# Altium schematic symbol library 00-100001-001.SchLib: 158 symbols (part 2 of 2)
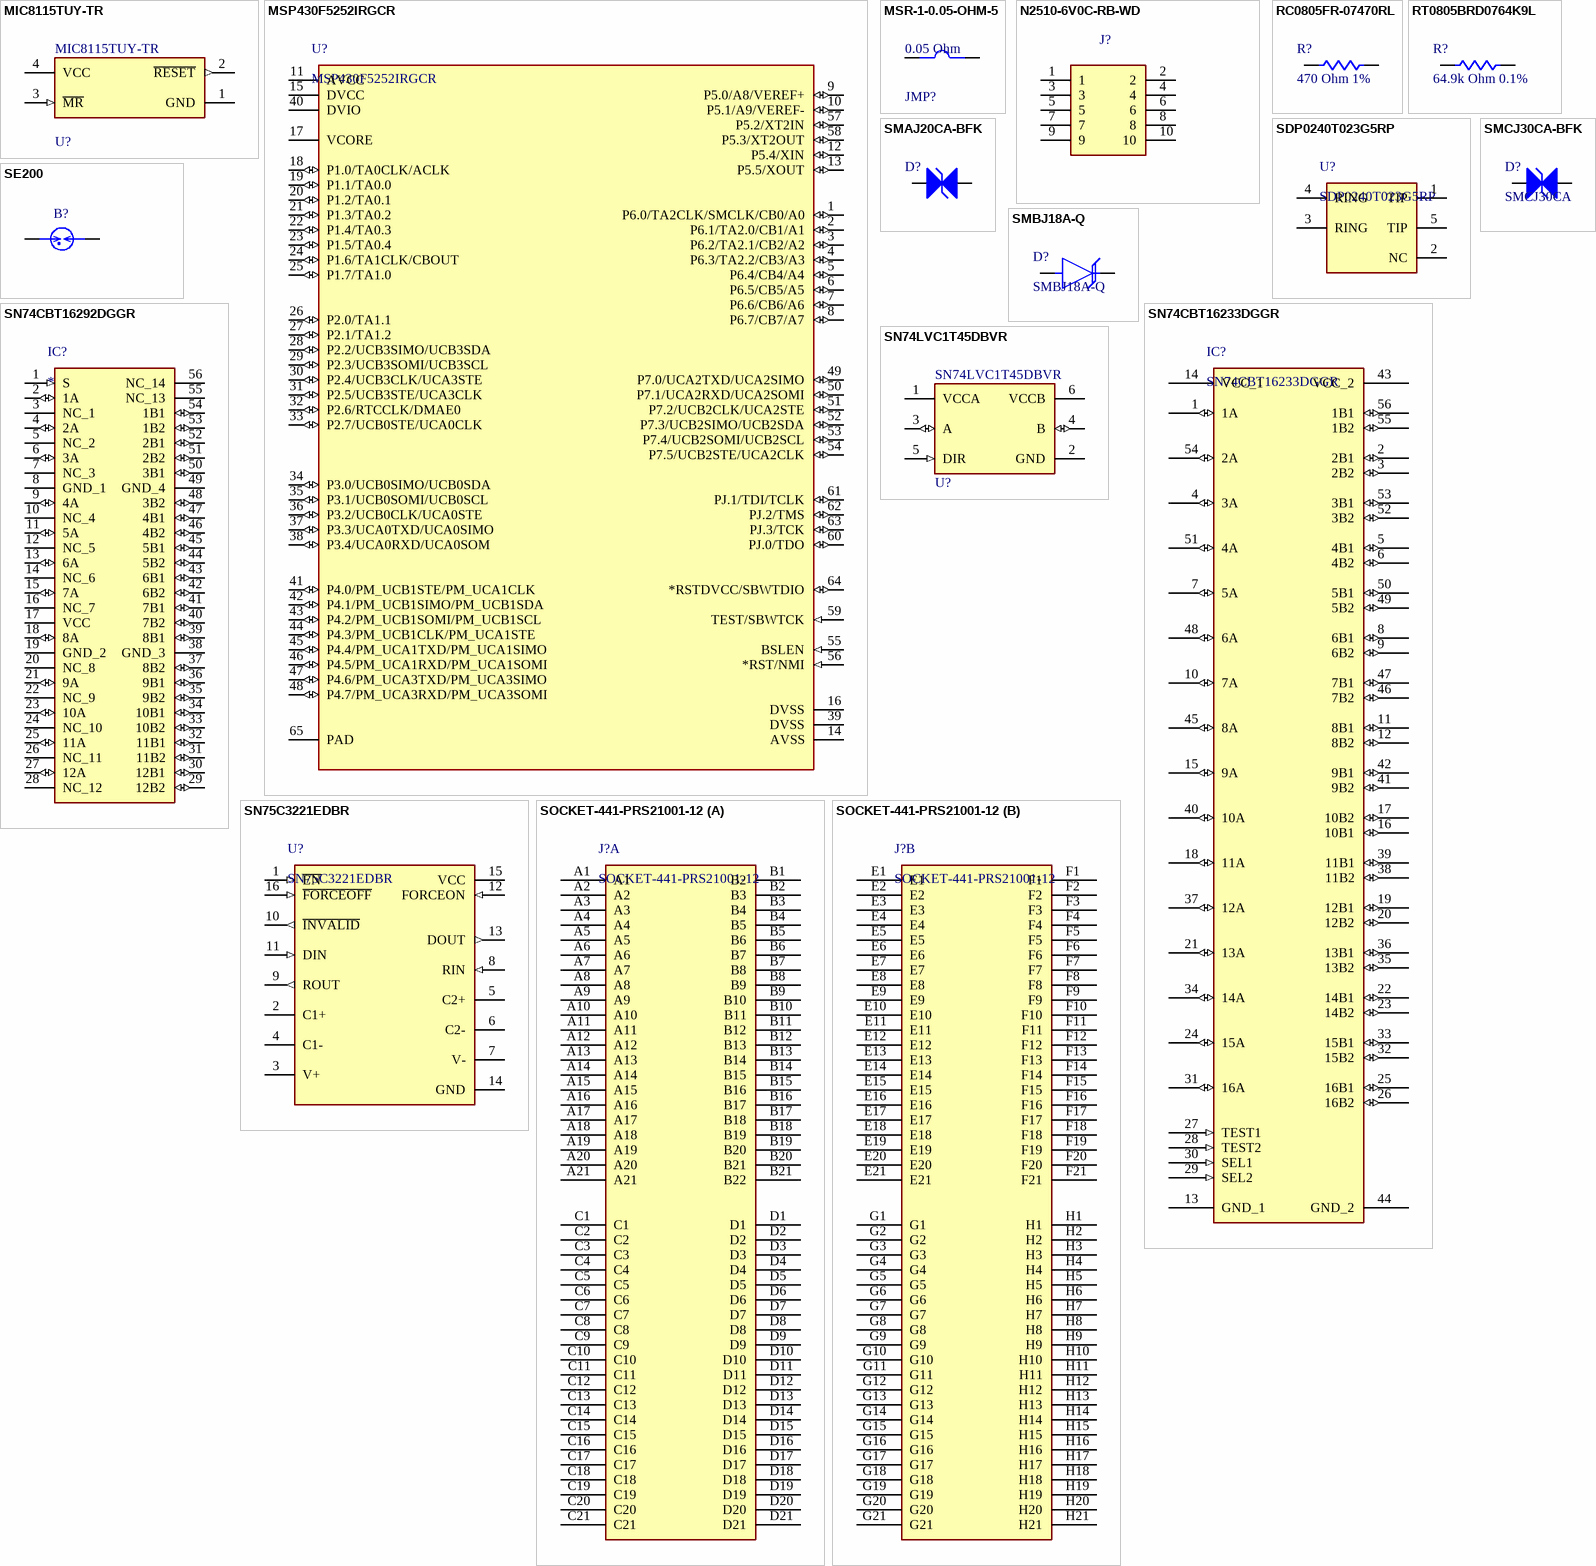
[diagram p5: symbols MIC8115TUY-TR to SOCKET-441-PRS21001-12]

## SN74LVC1T45DBVR
designator U?
IC TRNSLTR BIDIRECTIONAL SOT23-6; Number of Inputs: 1; Logic Function: Translator; Min Supply Voltage: 1.65V; Quiescent Current: 3uA; Turn-On Delay Time: 36.2ns; Max Supply Voltage: 5.5V; Polarity: Non-Inverting; Propagation Delay: 3.9ns; Low Level Output Current: 32mA; Data Rate: 420Mbps; High Level Output Current: -32mA; KMI: 812244; Number of Bits: 1; Max Operating Temperature: 85°C; Mount: Surface Mount; Lead Free: Lead Free; Number of Elements: 1; Package Quantity: 3000; Number of Pins: 6; Width: 1.3mm; Min Operating Temperature: -40°C; REACH SVHC: No SVHC; Weight: 0.000229oz; Contact Plating: Gold; Height: 1.75mm; Direction: Bidirectional; Number of Channels: 1; Length: 3.05mm; Packaging: Tape and Reel; Radiation Hardening: No
footprint SN74LVC1T45DBVR
pins: 1 VCCA (power), 2 GND (power), 3 A (io), 4 B (io), 5 DIR (in), 6 VCCB (power)

## SN75C3221EDBR
designator U?
3-V to 5.5-V Single-Channel RS-232 1-Mbit/s Line Driver / Receiver with ±15-kV IEC ESD Protection, -40 to 85 degC, 16-Pin SSOP (DB), Green (RoHS & no Sb/Br); Receivers Per Package: 1; ESD HBM(kV): +/-15; Supply Voltage(s)(V): 3.3 or 5.0; KMI: 811379; PackageDescription: 16-Pin Plastic Small Outline Package, 6.2 x 5.3 mm Body, 0.65 mm Pitch; ComponentLink2Description: Datasheet; ComponentLink3Description: Package Specification; ComponentLink2URL: http://www.ti.com/general/docs/lit/getliterature.tsp?genericPartNumber=SN75C3221E&fileType=pdf; ComponentLink1Description: Manufacturer URL; ComponentLink1URL: www.ti.com; ComponentLink3URL: http://www.ti.com/litv/pdf/msso002e
footprint DB0016A_N (SOP, 16-Leads, Body 5.6x6.5mm, Pitch 0.65mm, IPC Medium Density)
pins: 1 ~{EN} (in), 2 C1+, 3 V+ (power), 4 C1-, 5 C2+, 6 C2-, 7 V- (power), 8 RIN (in), 9 ROUT (out), 10 ~{INVALID} (out), 11 DIN (in), 12 FORCEON (in), 13 DOUT (out), 14 GND (power), 15 VCC (power), 16 ~{FORCEOFF} (in)

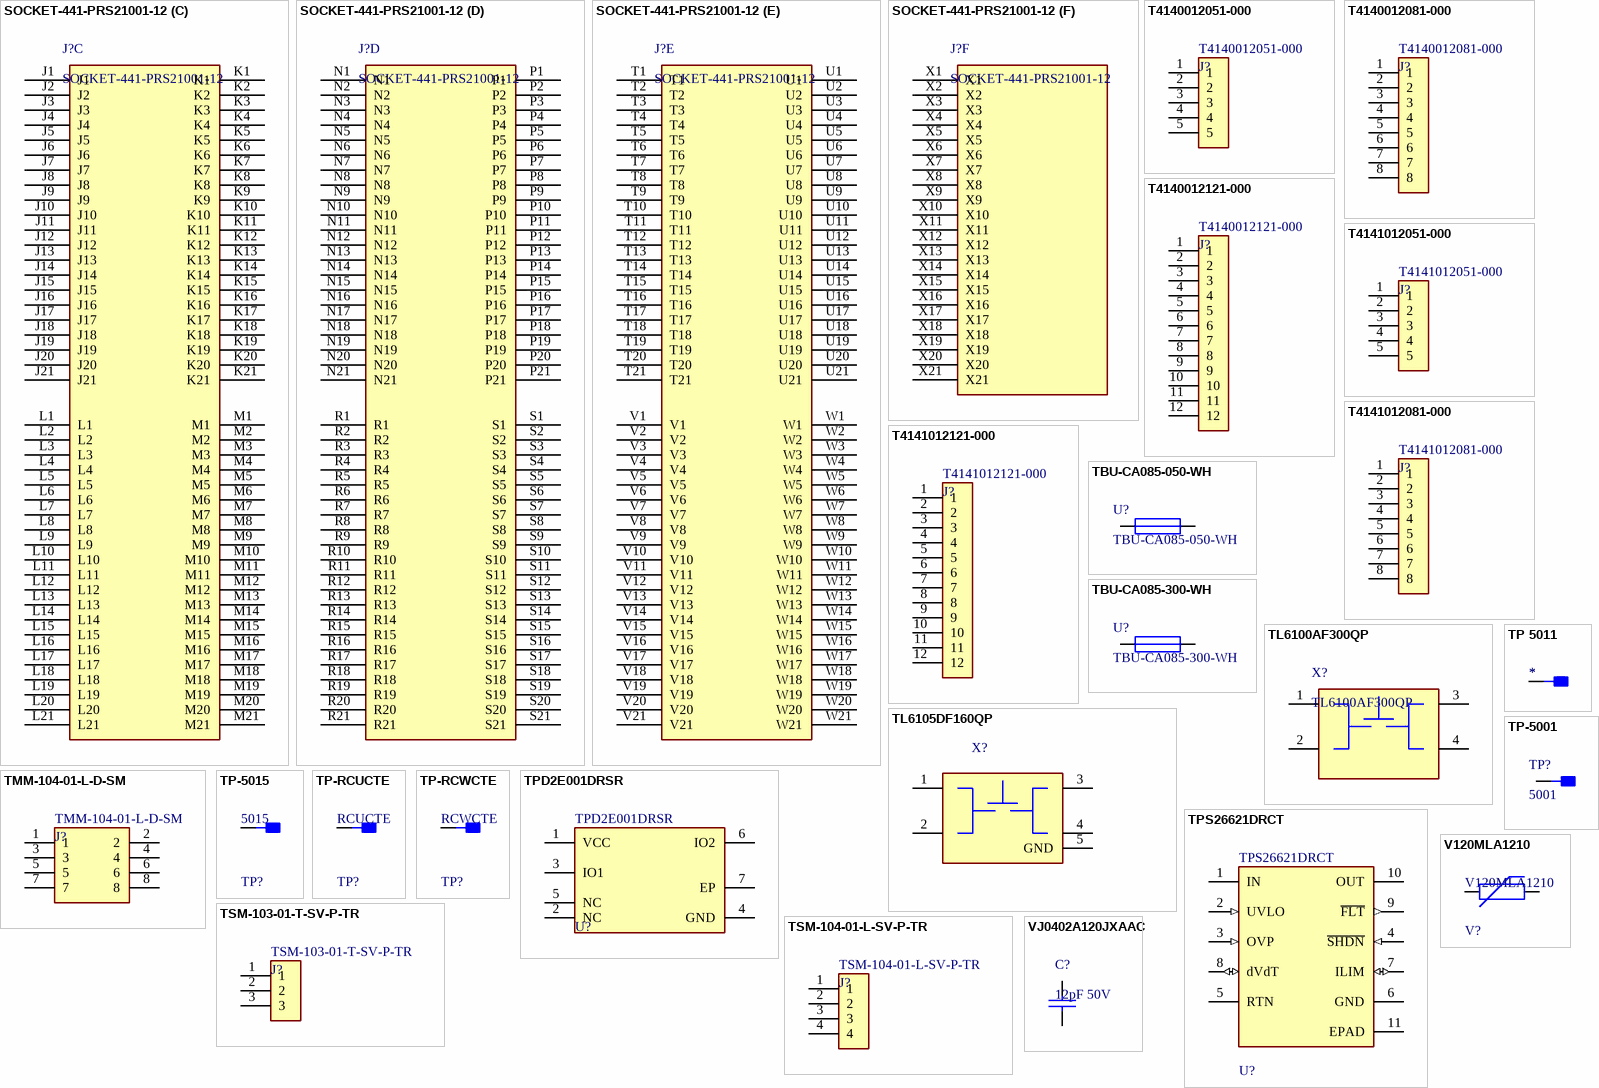
[diagram p4: symbols SOCKET-441-PRS21001-12 to VJ0402A120JXAAC]

## SOCKET-441-PRS21001-12
designator J?
PGA ZIF Test & Burn-in Socket for / Any Footprint on Std 8x8 to 21x21 Grid
footprint 441PRS2100112
part A pins: A1, A2, A3, A4, A5, A6, A7, A8, A9, A10, A11, A12, A13, A14, A15, A16, A17, A18, A19, A20, A21, B1 B2, B2 B3, B3 B4, B4 B5, B5 B6, B6 B7, B7 B8, B8 B9, B9 B10, B10 B11, B11 B12, B12 B13, B13 B14, B14 B15, B15 B16, B16 B17, B17 B18, B18 B19, B19 B20, B20 B21, B21 B22, C1, C2, C3, C4, C5, C6, C7, C8, C9, C10, C11, C12, C13, C14, C15, C16, C17, C18, C19, C20, C21, D1, D2, D3, D4, D5, D6, D7, D8, D9, D10, D11, D12, D13, D14, D15, D16, D17, D18, D19, D20, D21
part B pins: E1, E2, E3, E4, E5, E6, E7, E8, E9, E10, E11, E12, E13, E14, E15, E16, E17, E18, E19, E20, E21, F1, F2, F3, F4, F5, F6, F7, F8, F9, F10, F11, F12, F13, F14, F15, F16, F17, F18, F19, F20, F21, G1, G2, G3, G4, G5, G6, G7, G8, G9, G10, G11, G12, G13, G14, G15, G16, G17, G18, G19, G20, G21, H1, H2, H3, H4, H5, H6, H7, H8, H9, H10, H11, H12, H13, H14, H15, H16, H17, H18, H19, H20, H21
part C pins: J1, J2, J3, J4, J5, J6, J7, J8, J9, J10, J11, J12, J13, J14, J15, J16, J17, J18, J19, J20, J21, K1, K2, K3, K4, K5, K6, K7, K8, K9, K10, K11, K12, K13, K14, K15, K16, K17, K18, K19, K20, K21, L1, L2, L3, L4, L5, L6, L7, L8, L9, L10, L11, L12, L13, L14, L15, L16, L17, L18, L19, L20, L21, M1, M2, M3, M4, M5, M6, M7, M8, M9, M10, M11, M12, M13, M14, M15, M16, M17, M18, M19, M20, M21
part D pins: N1, N2, N3, N4, N5, N6, N7, N8, N9, N10, N11, N12, N13, N14, N15, N16, N17, N18, N19, N20, N21, P1, P2, P3, P4, P5, P6, P7, P8, P9, P10, P11, P12, P13, P14, P15, P16, P17, P18, P19, P20, P21, R1, R2, R3, R4, R5, R6, R7, R8, R9, R10, R11, R12, R13, R14, R15, R16, R17, R18, R19, R20, R21, S1, S2, S3, S4, S5, S6, S7, S8, S9, S10, S11, S12, S13, S14, S15, S16, S17, S18, S19, S20, S21
part E pins: T1, T2, T3, T4, T5, T6, T7, T8, T9, T10, T11, T12, T13, T14, T15, T16, T17, T18, T19, T20, T21, U1, U2, U3, U4, U5, U6, U7, U8, U9, U10, U11, U12, U13, U14, U15, U16, U17, U18, U19, U20, U21, V1, V2, V3, V4, V5, V6, V7, V8, V9, V10, V11, V12, V13, V14, V15, V16, V17, V18, V19, V20, V21, W1, W2, W3, W4, W5, W6, W7, W8, W9, W10, W11, W12, W13, W14, W15, W16, W17, W18, W19, W20, W21
part F pins: X1, X2, X3, X4, X5, X6, X7, X8, X9, X10, X11, X12, X13, X14, X15, X16, X17, X18, X19, X20, X21

## T4140012051-000
designator J?
5 Position M12 Circular Connector Plug, Male Sockets Solder; Number of Contacts: 5; Orientation: Straight
footprint T4140012051-000-5P-MALE
pins: 1, 2, 3, 4, 5

## T4140012081-000
designator J?
8 Position M12 Circular Connector Plug, Male Solder; Number of Contacts: 4; Orientation: Straight
footprint T4140012081000-8P-MALE
pins: 1, 2, 3, 4, 5, 6, 7, 8

## T4140012121-000
designator J?
12 Position M12 Circular Connector Plug, Male Sockets Solder; Number of Contacts: 12; Orientation: Straight
footprint T4140012121-000-12P-MALE
pins: 1, 2, 3, 4, 5, 6, 7, 8, 9, 10, 11, 12

## T4141012051-000
designator J?
5 Position M12 Circular Connector Plug, Female Sockets Solder; Number of Contacts: 5; Orientation: Straight
footprint FP-T4141012051-000-MFG
pins: 1, 2, 3, 4, 5

## T4141012081-000
designator J?
8 Position M12 Circular Connector Plug, Female Solder; Number of Contacts: 4; Orientation: Straight
footprint T4141012081000-8P-Female
pins: 1, 2, 3, 4, 5, 6, 7, 8

## T4141012121-000
designator J?
12 Position M12 Circular Connector Plug, Female Sockets Solder; Number of Contacts: 4; Orientation: Straight
footprint T4141012121-000-12P-FEMALE
pins: 1, 2, 3, 4, 5, 6, 7, 8, 9, 10, 11, 12

## TBU-CA085-050-WH
designator U?
Series of Bourns® TBU® products are low capacitance single bidirectional high-speed protection component; Mfr_Name: Bourns Electronics; KMI: 811573; Copyright: Copyright (C) 2022 Ultra Librarian. All rights reserved.; Manufacturer_Part_Number: TBU-CA085-050-WH; Digi-Key_Part_Number_1: TBU-CA085-050-WHCT-ND; Digi-Key_Part_Number_2: TBU-CA085-050-WHDKR-ND; Digi-Key_Part_Number_3: TBU-CA085-050-WHTR-ND; RefDes: RefDes; Type: DEV
footprint TBU-CA085-050-WH_BRN
pins: 1 LINE_IN/OUT, 3 LINE_OUT/IN

## TBU-CA085-300-WH
designator U?
TBU-CA Series - TBU® High-Speed Protectors; Mfr_Name: Bourns Electronics; Manufacturer_Part_Number: TBU-CA085-050-WH; KMI: 812243; Copyright: Copyright (C) 2022 Ultra Librarian. All rights reserved.; Digi-Key_Part_Number_1: TBU-CA085-050-WHCT-ND; Digi-Key_Part_Number_2: TBU-CA085-050-WHDKR-ND; Digi-Key_Part_Number_3: TBU-CA085-050-WHTR-ND; RefDes: RefDes; Type: DEV
footprint TBU-CA085-050-WH_BRN
pins: 1 LINE_IN/OUT, 3 LINE_OUT/IN

## TL6100AF300QP
designator X?
SWITCH TACTILE SPST-NO 0.05A 12V; KMI: 841890; Mfg Name: E-Switch; Value: TL6100AF300QP; Comm Number: TL6100AF300QP
footprint TL6100AF300QP
pins: 1 NO_1, 2 NO_2, 3 NO_3, 4 NO_4

## TL6105DF160QP
designator X?
SWITCH TACTILE SPST-NO 0.05A 50V; Manufacturer_Name: E-Switch; Geometry.Height: 10mm; KMI: 841814; Mouser Part Number: *; Mouser Price/Stock: *; Manufacturer_Part_Number: TL6105DF160QP; Datasheet Link: *
footprint TL6105DF160QP
pins: 1 NO_1, 2 NO_2, 3 NO_3, 4 NO_4, 5 GND (power)

## TMM-104-01-L-D-SM
designator J?
CONN HEADER SMD 8POS 2MM; Number of Contacts: 8; Gender: Male; Max Current Rating: 3.9A; Max Voltage Rating (AC): 500V; KMI: 851046; Orientation: Straight; Length: 8mm; Depth: 3.94mm; Packaging: Bulk; Pitch: 2mm; Max Operating Temperature: 125°C; Number of Rows: 2; Housing Material: Polymer; Min Operating Temperature: -55°C; Termination: Solder
footprint FP-TMM-104-01-L-D-SM-MFG
pins: 1, 2, 3, 4, 5, 6, 7, 8

## TP 5011
designator *
THRU HOLE TEST POINT - BLACK Multipurpose
footprint TP_5011
pins: 1

## TP-5001
designator TP?, comment 5001
THRU HOLE TEST POINT; Mfg Name: Keystone; KMI: 851732; Comm Number: 5001
footprint TP-5001-MFG
pins: 1

## TP-5015
designator TP?, comment 5015
PC TEST POINT MINIATURE; Manufacturer: keystone; Number Of Contacts: 1; Conn Orientation: Straight; KMI: 852768; Category: Conn; Manufacturer Part Number: 5015; Digikey Description: PC TEST POINT MINIATURE; Automotive: No; Lead Free: Yes; Octopart: https://octopart.com/5015-keystone-3822; ComponentLink2URL: http://www.keyelco.com/product-pdf.cfm?p=1353; Package: 5015; RoHS: TRUE; Device Class L3: unset; Device Class L2: unset; Contact Material: Silver; Device Class L1: Connectors; Height: 1.65mm; ComponentLink2Description: Datasheet
footprint TP-5015-MFG
pins: 1

## TP-RCUCTE
designator TP?, comment RCUCTE
PC TEST POINT MINIATURE; Manufacturer Part Number: 5015; Manufacturer: keystone; Number Of Contacts: 1; Conn Orientation: Straight; KMI: 852768; Category: Conn; Digikey Description: PC TEST POINT MINIATURE; Automotive: No; Lead Free: Yes; Octopart: https://octopart.com/5015-keystone-3822; ComponentLink2URL: http://www.keyelco.com/product-pdf.cfm?p=1353; Package: 5015; RoHS: TRUE; Device Class L3: unset; Device Class L2: unset; Contact Material: Silver; Device Class L1: Connectors; Height: 1.65mm; ComponentLink2Description: Datasheet
footprint TP-RCUCTE
pins: 1

## TP-RCWCTE
designator TP?, comment RCWCTE
PC TEST POINT MINIATURE; Manufacturer Part Number: 5015; Manufacturer: keystone; Number Of Contacts: 1; Conn Orientation: Straight; KMI: 852768; Category: Conn; Digikey Description: PC TEST POINT MINIATURE; Automotive: No; Lead Free: Yes; Octopart: https://octopart.com/5015-keystone-3822; ComponentLink2URL: http://www.keyelco.com/product-pdf.cfm?p=1353; Package: 5015; RoHS: TRUE; Device Class L3: unset; Device Class L2: unset; Contact Material: Silver; Device Class L1: Connectors; Height: 1.65mm; ComponentLink2Description: Datasheet
footprint TP-RCWCTE
pins: 1

## TPD2E001DRSR
designator U?
TVS DIODE 5.5V 6SON; Capacitance: 1.5pF; KMI: 800330; REACH SVHC: No SVHC; Operating Supply Voltage: 5.5V
footprint DRS0006A-MFG
pins: 1 VCC (power), 2 NC, 3 IO1, 4 GND (power), 5 NC, 6 IO2, 7 EP (power)

## TPS26621DRCT
designator U?
PWR MGMT PWR DISTRIBUTION; Accuracy: 5%; Output Current: 880mA; KMI: 811717; RoHS Compliant: Yes; Packaging: Tape and Reel; Max Operating Temperature: 125°C; Mount: Surface Mount; Min Operating Temperature: -40°C
footprint TPS26621DRCT
pins: 1 IN (power), 2 UVLO (in), 3 OVP (in), 4 ~{SHDN} (in), 5 RTN, 6 GND (power), 7 ILIM (io), 8 dVdT (io), 9 ~{FLT} (out), 10 OUT (power), 11 EPAD (power)

## TSM-103-01-T-SV-P-TR
designator J?
CONN HEADER SMD 3 POS 2.54MM; Number of Contacts: 3; Gender: Male; Pitch: 2mm; Max Current Rating: 3.9A; Max Voltage Rating (AC): 500V; KMI: 854191; Orientation: Straight; Length: 8mm; Depth: 3.94mm; Packaging: Bulk; Max Operating Temperature: 125°C; Number of Rows: 1; Housing Material: Polymer; Min Operating Temperature: -55°C; Termination: Solder
footprint CONN_TSM-103-01-x-SV
pins: 1, 2, 3

## TSM-104-01-L-SV-P-TR
designator J?
CONN HEADER SMD 4POS 2.54MM; Number of Contacts: 4; Gender: Male; Pitch: 2mm; Max Current Rating: 3.9A; Max Voltage Rating (AC): 500V; KMI: 854190; Orientation: Straight; Length: 8mm; Depth: 3.94mm; Packaging: Bulk; Max Operating Temperature: 125°C; Number of Rows: 2; Housing Material: Polymer; Min Operating Temperature: -55°C; Termination: Solder
footprint TSM-104-01-L-SV-P-TR-MFG
pins: 1, 2, 3, 4

## V120MLA1210
designator V?
Varistors ML Series - Multilayer Transient Voltage Suppressor; KMI: 841726
footprint V120MLA1210 -1210
pins: 1, 2

## VJ0402A120JXAAC
designator C?, comment 12pF 50V
12PF 50V 5% C0G NPO 0402 Ceramic Capacitor; Mfg Name: Vishay/Vitramon; Comm Number: VJ0402A120JXAAC; KMI: 821456; Value: 12pF 50V
footprint C0402-XXXXXX-XXX
pins: 1, 2